# EAGLE library part MATRIX_PASSIVE_8X15SEG (library PatternAgents-TouchWidgets)
Matrix, Passive Capacitive/Touch Sensing Type, 8x15 Segment Source : http://www.PatternAgents.com Github : https://github.com/PatternAgents License : http://creativecommons.org/licenses/by-sa/3.1/ (Creative Commons 3.1) THIS SOFTWARE IS PROVIDED BY THE CONTRIBUTORS "AS IS" AND WITHOUT ANY EXPRESS OR IMPLIED WARRANTIES, INCLUDING, BUT NOT LIMITED TO, THE IMPLIED WARRANTIES OF MERCHANTABILITY AND FITNESS FOR A PARTICULAR PURPOSE ARE DISCLAIMED. IN NO EVENT SHALL THE COPYRIGHT OWNER OR CONTRIBUTORS BE LIABLE FOR ANY DIRECT, INDIRECT, INCIDENTAL, SPECIAL, EXEMPLARY, OR CONSEQUENTIAL DAMAGES (INCLUDING, BUT NOT LIMITED TO, PROCUREMENT OF SUBSTITUTE GOODS OR SERVICES; LOSS OF USE, DATA, OR PROFITS; OR BUSINESS INTERRUPTION) HOWEVER CAUSED AND ON ANY THEORY OF LIABILITY, WHETHER IN CONTRACT, STRICT LIABILITY, OR TORT (INCLUDING NEGLIGENCE OR OTHERWISE) ARISING IN ANY WAY OUT OF THE USE OF THIS SOFTWARE, EVEN IF ADVISED OF THE POSSIBILITY OF SUCH DAMAGE.
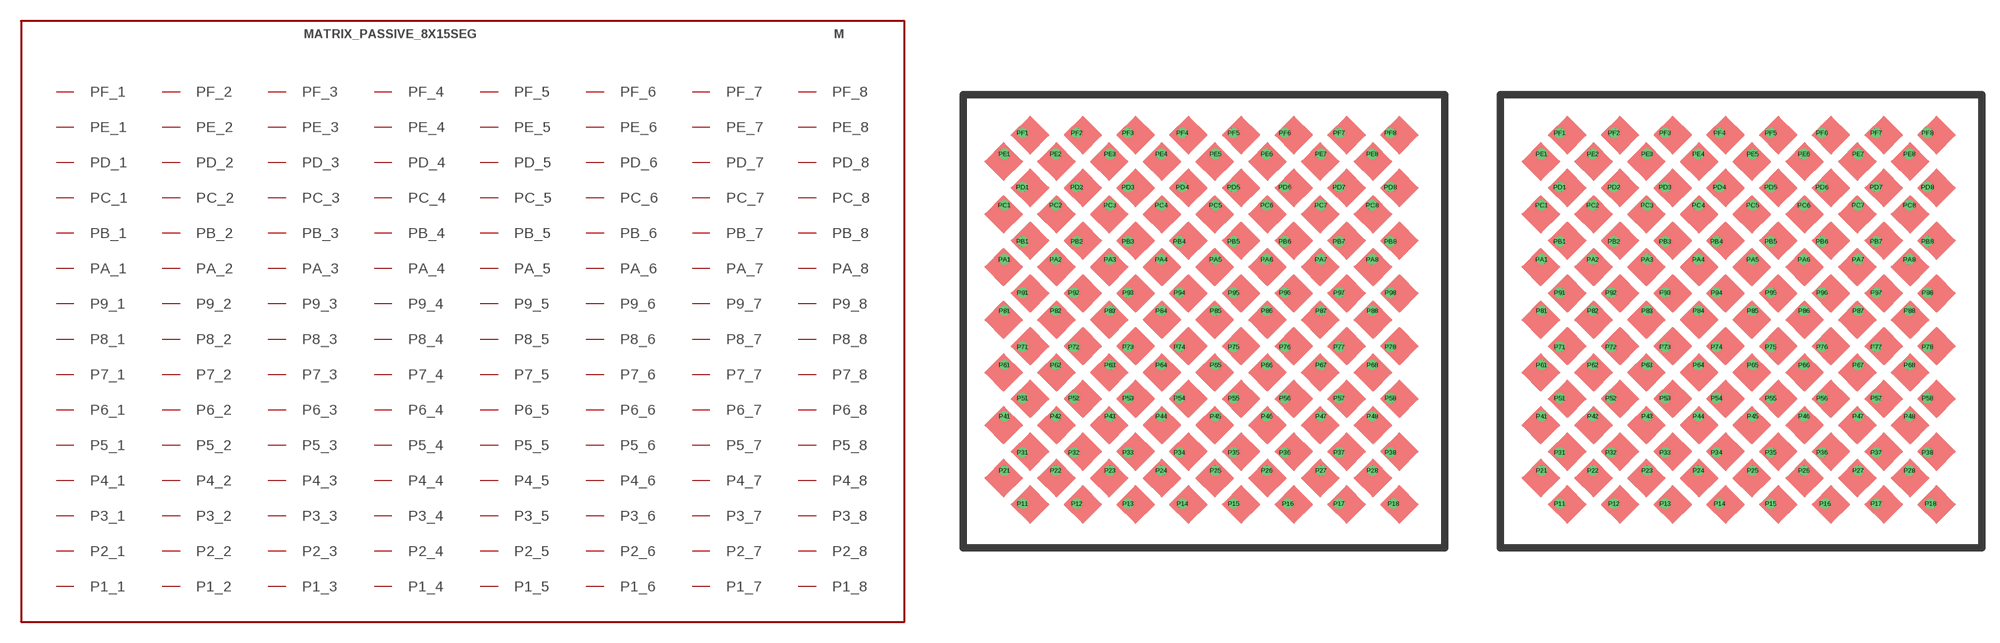
[diagram p1: symbol with the pads of MATRIX_PASSIVE_8X15SEG_4MM; footprints MATRIX_PASSIVE_8X15SEG_4MM, MATRIX_PASSIVE_8X15SEG_4MM_SHIELD]

Designator prefix M

## MATRIX_PASSIVE_8X15SEG  [MATRIX_PASSIVE_8X15SEG_4MM]
P11  P1_1  pas
P12  P1_2  pas
P13  P1_3  pas
P14  P1_4  pas
P15  P1_5  pas
P16  P1_6  pas
P17  P1_7  pas
P18  P1_8  pas
P21  P2_1  pas
P22  P2_2  pas
P23  P2_3  pas
P24  P2_4  pas
P25  P2_5  pas
P26  P2_6  pas
P27  P2_7  pas
P28  P2_8  pas
P31  P3_1  pas
P32  P3_2  pas
P33  P3_3  pas
P34  P3_4  pas
P35  P3_5  pas
P36  P3_6  pas
P37  P3_7  pas
P38  P3_8  pas
P41  P4_1  pas
P42  P4_2  pas
P43  P4_3  pas
P44  P4_4  pas
P45  P4_5  pas
P46  P4_6  pas
P47  P4_7  pas
P48  P4_8  pas
P51  P5_1  pas
P52  P5_2  pas
P53  P5_3  pas
P54  P5_4  pas
P55  P5_5  pas
P56  P5_6  pas
P57  P5_7  pas
P58  P5_8  pas
P61  P6_1  pas
P62  P6_2  pas
P63  P6_3  pas
P64  P6_4  pas
P65  P6_5  pas
P66  P6_6  pas
P67  P6_7  pas
P68  P6_8  pas
P71  P7_1  pas
P72  P7_2  pas
P73  P7_3  pas
P74  P7_4  pas
P75  P7_5  pas
P76  P7_6  pas
P77  P7_7  pas
P78  P7_8  pas
P81  P8_1  pas
P82  P8_2  pas
P83  P8_3  pas
P84  P8_4  pas
P85  P8_5  pas
P86  P8_6  pas
P87  P8_7  pas
P88  P8_8  pas
P91  P9_1  pas
P92  P9_2  pas
P93  P9_3  pas
P94  P9_4  pas
P95  P9_5  pas
P96  P9_6  pas
P97  P9_7  pas
P98  P9_8  pas
PA1  PA_1  pas
PA2  PA_2  pas
PA3  PA_3  pas
PA4  PA_4  pas
PA5  PA_5  pas
PA6  PA_6  pas
PA7  PA_7  pas
PA8  PA_8  pas
PB1  PB_1  pas
PB2  PB_2  pas
PB3  PB_3  pas
PB4  PB_4  pas
PB5  PB_5  pas
PB6  PB_6  pas
PB7  PB_7  pas
PB8  PB_8  pas
PC1  PC_1  pas
PC2  PC_2  pas
PC3  PC_3  pas
PC4  PC_4  pas
PC5  PC_5  pas
PC6  PC_6  pas
PC7  PC_7  pas
PC8  PC_8  pas
PD1  PD_1  pas
PD2  PD_2  pas
PD3  PD_3  pas
PD4  PD_4  pas
PD5  PD_5  pas
PD6  PD_6  pas
PD7  PD_7  pas
PD8  PD_8  pas
PE1  PE_1  pas
PE2  PE_2  pas
PE3  PE_3  pas
PE4  PE_4  pas
PE5  PE_5  pas
PE6  PE_6  pas
PE7  PE_7  pas
PE8  PE_8  pas
PF1  PF_1  pas
PF2  PF_2  pas
PF3  PF_3  pas
PF4  PF_4  pas
PF5  PF_5  pas
PF6  PF_6  pas
PF7  PF_7  pas
PF8  PF_8  pas

## MATRIX_PASSIVE_8X15SEGSHIELD  [MATRIX_PASSIVE_8X15SEG_4MM_SHIELD]
Pads as for MATRIX_PASSIVE_8X15SEG_4MM

## Footprint MATRIX_PASSIVE_8X15SEG_4MM (pad centres in mm)
Matrix, Passive Capacitive/Touch Sensing Type, 8x15 Segment, 4mm Source : http://www.PatternAgents.com Github : https://github.com/PatternAgents License : http://creativecommons.org/licenses/by-sa/3.1/ (Creative Commons 3.1) THIS SOFTWARE IS PROVIDED BY THE CONTRIBUTORS "AS IS" AND WITHOUT ANY EXPRESS OR IMPLIED WARRANTIES, INCLUDING, BUT NOT LIMITED TO, THE IMPLIED WARRANTIES OF MERCHANTABILITY AND FITNESS FOR A PARTICULAR PURPOSE ARE DISCLAIMED. IN NO EVENT SHALL THE COPYRIGHT OWNER OR CONTRIBUTORS BE LIABLE FOR ANY DIRECT, INDIRECT, INCIDENTAL, SPECIAL, EXEMPLARY, OR CONSEQUENTIAL DAMAGES (INCLUDING, BUT NOT LIMITED TO, PROCUREMENT OF SUBSTITUTE GOODS OR SERVICES; LOSS OF USE, DATA, OR PROFITS; OR BUSINESS INTERRUPTION) HOWEVER CAUSED AND ON ANY THEORY OF LIABILITY, WHETHER IN CONTRACT, STRICT LIABILITY, OR TORT (INCLUDING NEGLIGENCE OR OTHERWISE) ARISING IN ANY WAY OUT OF THE USE OF THIS SOFTWARE, EVEN IF ADVISED OF THE POSSIBILITY OF SUCH DAMAGE.
drill 0.356: P11 -13.97,-15.494; P12 -9.398,-15.494; P13 -5.08,-15.494; P14 -0.508,-15.494; P15 3.81,-15.494; P16 8.382,-15.494; P17 12.7,-15.494; P18 17.272,-15.494; P21 -15.494,-12.7; P22 -11.176,-12.7; P23 -6.604,-12.7; P24 -2.286,-12.7; P25 2.286,-12.7; P26 6.604,-12.7; P27 11.176,-12.7; P28 15.494,-12.7; P31 -13.97,-11.176; P32 -9.652,-11.176; P33 -5.08,-11.176; P34 -0.762,-11.176; P35 3.81,-11.176; P36 8.128,-11.176; P37 12.7,-11.176; P38 17.018,-11.176; P41 -15.494,-8.128; P42 -11.176,-8.128; P43 -6.604,-8.128; P44 -2.286,-8.128; P45 2.286,-8.128; P46 6.604,-8.128; P47 11.176,-8.128; P48 15.494,-8.128; P51 -13.97,-6.604; P52 -9.652,-6.604; P53 -5.08,-6.604; P54 -0.762,-6.604; P55 3.81,-6.604; P56 8.128,-6.604; P57 12.7,-6.604; P58 17.018,-6.604; P61 -15.494,-3.81; P62 -11.176,-3.81; P63 -6.604,-3.81; P64 -2.286,-3.81; P65 2.286,-3.81; P66 6.604,-3.81; P67 11.176,-3.81; P68 15.494,-3.81; P71 -13.97,-2.286; P72 -9.652,-2.286; P73 -5.08,-2.286; P74 -0.762,-2.286; P75 3.81,-2.286; P76 8.128,-2.286; P77 12.7,-2.286; P78 17.018,-2.286; P81 -15.494,0.762; P82 -11.176,0.762; P83 -6.604,0.762; P84 -2.286,0.762; P85 2.286,0.762; P86 6.604,0.762; P87 11.176,0.762; P88 15.494,0.762; P91 -13.97,2.286; P92 -9.652,2.286; P93 -5.08,2.286; P94 -0.762,2.286; P95 3.81,2.286; P96 8.128,2.286; P97 12.7,2.286; P98 17.018,2.286; PA1 -15.494,5.08; PA2 -11.176,5.08; PA3 -6.604,5.08; PA4 -2.286,5.08; PA5 2.286,5.08; PA6 6.604,5.08; PA7 11.176,5.08; PA8 15.494,5.08; PB1 -13.97,6.604; PB2 -9.398,6.604; PB3 -5.08,6.604; PB4 -0.762,6.604; PB5 3.81,6.604; PB6 8.128,6.604; PB7 12.7,6.604; PB8 17.018,6.604; PC1 -15.494,9.652; PC2 -11.176,9.652; PC3 -6.604,9.652; PC4 -2.286,9.652; PC5 2.286,9.652; PC6 6.604,9.652; PC7 11.176,9.652; PC8 15.494,9.652; PD1 -13.97,11.176; PD2 -9.398,11.176; PD3 -5.08,11.176; PD4 -0.508,11.176; PD5 3.81,11.176; PD6 8.128,11.176; PD7 12.7,11.176; PD8 17.018,11.176; PE1 -15.494,13.97; PE2 -11.176,13.97; PE3 -6.604,13.97; PE4 -2.286,13.97; PE5 2.286,13.97; PE6 6.604,13.97; PE7 11.176,13.97; PE8 15.494,13.97; PF1 -13.97,15.748; PF2 -9.398,15.748; PF3 -5.08,15.748; PF4 -0.508,15.748; PF5 3.81,15.748; PF6 8.128,15.748; PF7 12.7,15.748; PF8 17.018,15.748

## Footprint MATRIX_PASSIVE_8X15SEG_4MM_SHIELD (pad centres in mm)
Matrix, Passive Capacitive/Touch Sensing Type, 8x15 Segment, 4mm Source : http://www.PatternAgents.com Github : https://github.com/PatternAgents License : http://creativecommons.org/licenses/by-sa/3.1/ (Creative Commons 3.1) THIS SOFTWARE IS PROVIDED BY THE CONTRIBUTORS "AS IS" AND WITHOUT ANY EXPRESS OR IMPLIED WARRANTIES, INCLUDING, BUT NOT LIMITED TO, THE IMPLIED WARRANTIES OF MERCHANTABILITY AND FITNESS FOR A PARTICULAR PURPOSE ARE DISCLAIMED. IN NO EVENT SHALL THE COPYRIGHT OWNER OR CONTRIBUTORS BE LIABLE FOR ANY DIRECT, INDIRECT, INCIDENTAL, SPECIAL, EXEMPLARY, OR CONSEQUENTIAL DAMAGES (INCLUDING, BUT NOT LIMITED TO, PROCUREMENT OF SUBSTITUTE GOODS OR SERVICES; LOSS OF USE, DATA, OR PROFITS; OR BUSINESS INTERRUPTION) HOWEVER CAUSED AND ON ANY THEORY OF LIABILITY, WHETHER IN CONTRACT, STRICT LIABILITY, OR TORT (INCLUDING NEGLIGENCE OR OTHERWISE) ARISING IN ANY WAY OUT OF THE USE OF THIS SOFTWARE, EVEN IF ADVISED OF THE POSSIBILITY OF SUCH DAMAGE.
drill 0.356: P11 -13.97,-15.494; P12 -9.398,-15.494; P13 -5.08,-15.494; P14 -0.508,-15.494; P15 3.81,-15.494; P16 8.382,-15.494; P17 12.7,-15.494; P18 17.272,-15.494; P21 -15.494,-12.7; P22 -11.176,-12.7; P23 -6.604,-12.7; P24 -2.286,-12.7; P25 2.286,-12.7; P26 6.604,-12.7; P27 11.176,-12.7; P28 15.494,-12.7; P31 -13.97,-11.176; P32 -9.652,-11.176; P33 -5.08,-11.176; P34 -0.762,-11.176; P35 3.81,-11.176; P36 8.128,-11.176; P37 12.7,-11.176; P38 17.018,-11.176; P41 -15.494,-8.128; P42 -11.176,-8.128; P43 -6.604,-8.128; P44 -2.286,-8.128; P45 2.286,-8.128; P46 6.604,-8.128; P47 11.176,-8.128; P48 15.494,-8.128; P51 -13.97,-6.604; P52 -9.652,-6.604; P53 -5.08,-6.604; P54 -0.762,-6.604; P55 3.81,-6.604; P56 8.128,-6.604; P57 12.7,-6.604; P58 17.018,-6.604; P61 -15.494,-3.81; P62 -11.176,-3.81; P63 -6.604,-3.81; P64 -2.286,-3.81; P65 2.286,-3.81; P66 6.604,-3.81; P67 11.176,-3.81; P68 15.494,-3.81; P71 -13.97,-2.286; P72 -9.652,-2.286; P73 -5.08,-2.286; P74 -0.762,-2.286; P75 3.81,-2.286; P76 8.128,-2.286; P77 12.7,-2.286; P78 17.018,-2.286; P81 -15.494,0.762; P82 -11.176,0.762; P83 -6.604,0.762; P84 -2.286,0.762; P85 2.286,0.762; P86 6.604,0.762; P87 11.176,0.762; P88 15.494,0.762; P91 -13.97,2.286; P92 -9.652,2.286; P93 -5.08,2.286; P94 -0.762,2.286; P95 3.81,2.286; P96 8.128,2.286; P97 12.7,2.286; P98 17.018,2.286; PA1 -15.494,5.08; PA2 -11.176,5.08; PA3 -6.604,5.08; PA4 -2.286,5.08; PA5 2.286,5.08; PA6 6.604,5.08; PA7 11.176,5.08; PA8 15.494,5.08; PB1 -13.97,6.604; PB2 -9.398,6.604; PB3 -5.08,6.604; PB4 -0.762,6.604; PB5 3.81,6.604; PB6 8.128,6.604; PB7 12.7,6.604; PB8 17.018,6.604; PC1 -15.494,9.652; PC2 -11.176,9.652; PC3 -6.604,9.652; PC4 -2.286,9.652; PC5 2.286,9.652; PC6 6.604,9.652; PC7 11.176,9.652; PC8 15.494,9.652; PD1 -13.97,11.176; PD2 -9.398,11.176; PD3 -5.08,11.176; PD4 -0.508,11.176; PD5 3.81,11.176; PD6 8.128,11.176; PD7 12.7,11.176; PD8 17.018,11.176; PE1 -15.494,13.97; PE2 -11.176,13.97; PE3 -6.604,13.97; PE4 -2.286,13.97; PE5 2.286,13.97; PE6 6.604,13.97; PE7 11.176,13.97; PE8 15.494,13.97; PF1 -13.97,15.748; PF2 -9.398,15.748; PF3 -5.08,15.748; PF4 -0.508,15.748; PF5 3.81,15.748; PF6 8.128,15.748; PF7 12.7,15.748; PF8 17.018,15.748